# EAGLE library part SAMTEC_BKS_119_1 (library AMH)
Socket connector
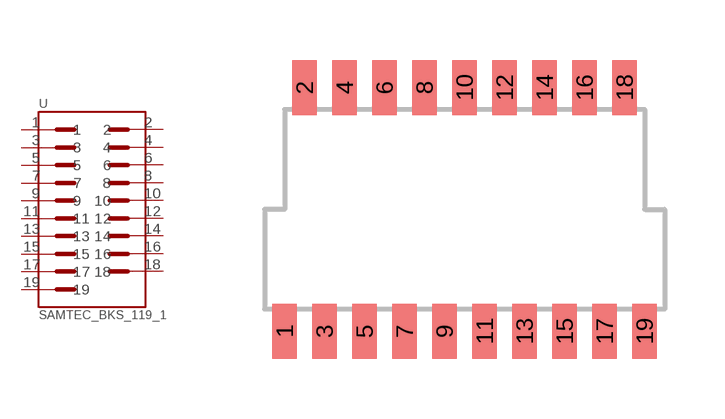
[diagram p4: symbol with the pads of SAMTEC_19P_1MM_SOCKET; footprint SAMTEC_19P_1MM_SOCKET]

Designator prefix -

## SAMTEC_BKS_119_1  [SAMTEC_19P_1MM_SOCKET]
1  1  pas
2  2  pas
3  3  pas
4  4  pas
5  5  pas
6  6  pas
7  7  pas
8  8  pas
9  9  pas
10  10  pas
11  11  pas
12  12  pas
13  13  pas
14  14  pas
15  15  pas
16  16  pas
17  17  pas
18  18  pas
19  19  pas

## Footprint SAMTEC_19P_1MM_SOCKET (pad centres in mm)
smd 0.61 x 1.375: 1 -4,-3.05; 2 -3.5,3.05; 3 -3,-3.05; 4 -2.5,3.05; 5 -2,-3.05; 6 -1.5,3.05; 7 -1,-3.05; 8 -0.5,3.05; 9 0,-3.05; 10 0.5,3.05; 11 1,-3.05; 12 1.5,3.05; 13 2,-3.05; 14 2.5,3.05; 15 3,-3.05; 16 3.5,3.05; 17 4,-3.05; 18 4.5,3.05; 19 5,-3.05